# Altium footprint library MOD_RCM05_SAM3_v1.0_19X34.pcblib: 1 footprints
Each footprint in its own frame and in the unit in brackets; x right, y up, seen from the top. Pads: shape width x height; smd on the part's side, far side on the other; paste and mask are expansions set on the pad; w line width, h text height; cw(c..) or ccw(c..) is an arc to the next point about the centre after c.
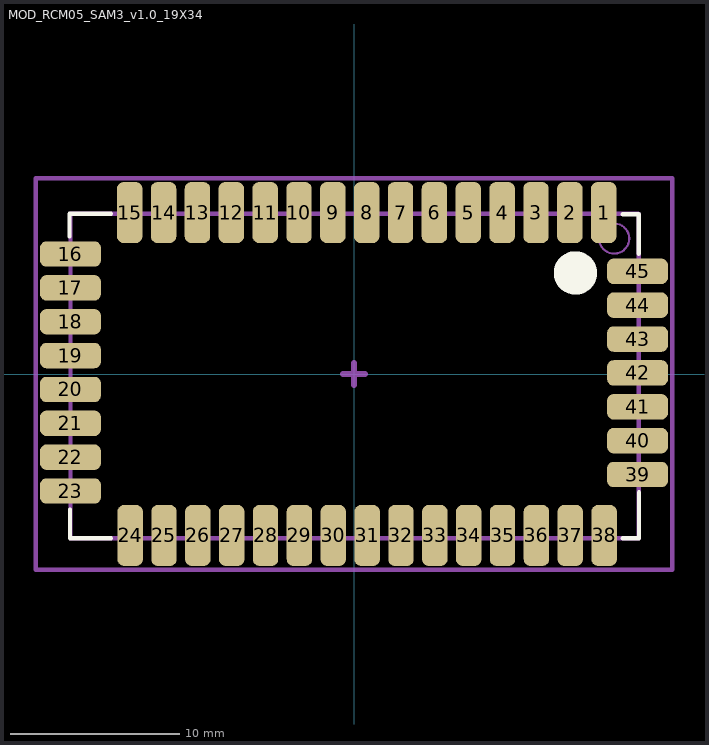
[diagram p0: the footprint, top view; thin cyan lines are the x and y axes]

## MOD_RCM05_SAM3_v1.0_19X34 [mm]
pads (45):
  rrect50% 1.5x3.6 smd paste-2.54: 1(14.75,9.538) 2(12.75,9.538) 3(10.75,9.538) 4(8.75,9.538) 5(6.75,9.538) 6(4.75,9.538) 7(2.75,9.538) 8(0.75,9.538) 9(-1.25,9.538) 10(-3.25,9.538) 11(-5.25,9.538) 12(-7.25,9.538) 13(-9.25,9.538) 14(-11.25,9.538) 15(-13.25,9.538) 24(-13.225,-9.538) 25(-11.225,-9.537) 26(-9.225,-9.538) 27(-7.225,-9.538) 28(-5.225,-9.538) 29(-3.225,-9.538) 30(-1.225,-9.537) 31(0.775,-9.538) 32(2.775,-9.538) 33(4.775,-9.538) 34(6.775,-9.538) 35(8.775,-9.538) 36(10.775,-9.538) 37(12.775,-9.538) 38(14.775,-9.538)
  rrect50% 3.6x1.5 smd paste-2.54: 16(-16.75,7.087) 17(-16.75,5.087) 18(-16.75,3.087) 19(-16.75,1.087) 20(-16.75,-0.913) 21(-16.75,-2.913) 22(-16.75,-4.913) 23(-16.75,-6.913) 39(16.75,-5.937) 40(16.75,-3.938) 41(16.75,-1.938) 42(16.75,0.062) 43(16.75,2.063) 44(16.75,4.062) 45(16.75,6.062)
Top Overlay:
  circle w1.27: c13.081,5.969 r0.648
  lines w0.254: -16.806,8.128 -16.806,9.441 ; -16.806,9.467 -14.351,9.467 ; -16.781,-8.001 -16.781,-9.711 -14.351,-9.711 ; 15.875,-9.711 16.839,-9.711 16.839,-6.985 ; 15.875,9.434 16.828,9.434 16.828,7.112
Mechanical 13:
  circle w0.127: c15.367,8.001 r0.889
  lines w0.254: -16.75,9.467 16.8,9.467 ; -16.75,9.471 -16.75,-9.711 16.825,-9.711 16.825,9.446
Mechanical 15:
  lines w0.254: -18.796,-11.557 -18.796,11.557 18.796,11.557 18.796,-11.557 -18.796,-11.557
  lines w0.381: -0.635,0 0.635,0 ; 0,-0.635 0,0.635
Mechanical 17:
  text ".Designator" at -6.985,-1.905 h3.81
Mechanical 19:
  text "'.Comment'" at -9.525,-1.905 h3.81
3D body "RCM-05-SAM3.step": height 2.34, standoff 0.08, extent -17.739,-10.534 17.793,10.466